# Altium schematic symbol library 24LC256.SchLib: 1 symbol
Pins are listed as number, name and electrical type; pins without a type are passive.

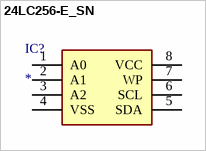
[diagram p0: symbol 24LC256-E_SN]

## 24LC256-E_SN
designator IC?
Integrated Circuit; Manufacturer_Name: Microchip; Manufacturer_Part_Number: 24LC256-E/SN; Allied_Number: 70414275; Datasheet Link: http://ww1.microchip.com/downloads/en/DeviceDoc/20001203U.pdf; Height: 1.75mm; Mouser Part Number: 579-24LC256-E/SN; Mouser Price/Stock: https://www.mouser.co.uk/ProductDetail/Microchip-Technology/24LC256-E-SN?qs=c1sEqUiSfref7Bwe9MzwWg%3D%3D; RS Part Number: 6678246P; RS Price/Stock: http://uk.rs-online.com/web/p/products/6678246P; Allied Price/Stock: http://www.alliedelec.com/microchip-technology-inc-24lc256-e-sn/70414275/
footprint SOIC 3.90x4.90x1.75 - 8N (SN) - duplicate
footprint TDFN 2x3x0.75 - 8N (MN)
pins: 1 A0, 2 A1, 3 A2, 4 VSS (power), 5 SDA, 6 SCL, 7 WP, 8 VCC (power)